# EAGLE library part SIM900 (library FansElectronics-SIM)
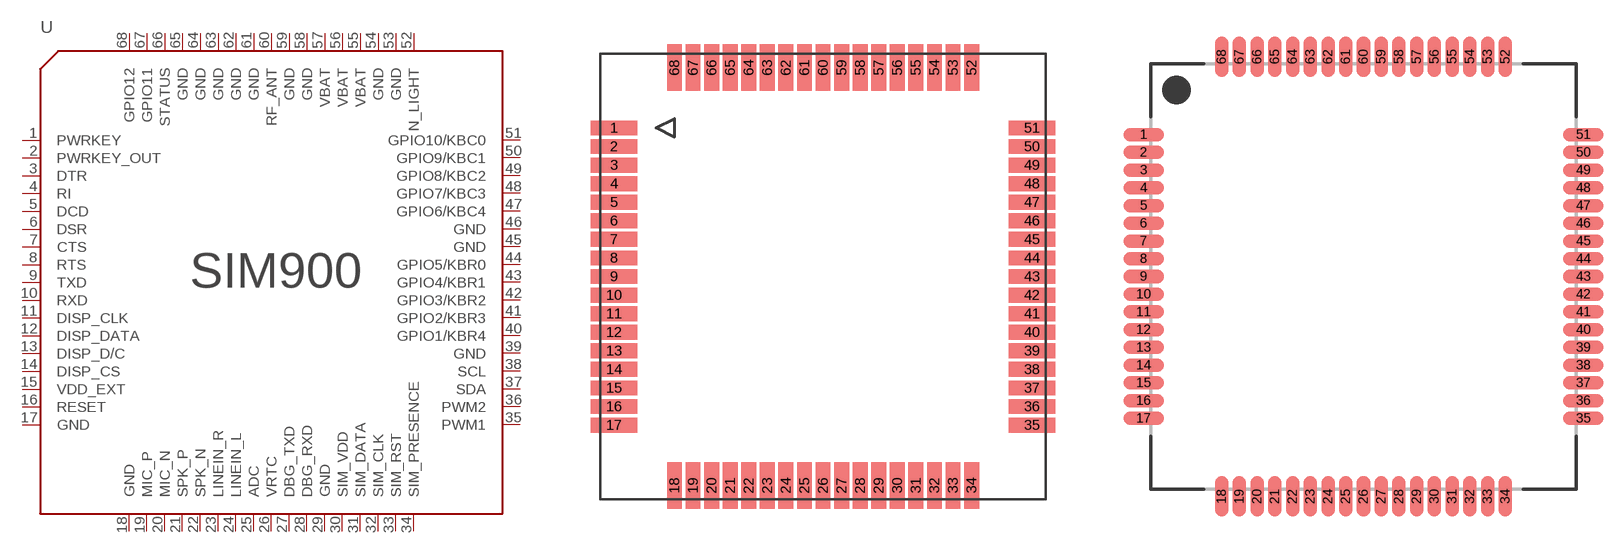
[diagram p1: symbol with the pads of SIM900; footprints SIM900, SIM900-2]

Designator prefix U

## SIM900-1  [SIM900]
1  PWRKEY
2  PWRKEY_OUT
3  DTR
4  RI
5  DCD
6  DSR
7  CTS
8  RTS
9  TXD
10  RXD
11  DISP_CLK
12  DISP_DATA
13  DISP_D/C
14  DISP_CS
15  VDD_EXT  pwr
16  RESET
17  GND  pwr
18  GND  pwr
19  MIC_P  pas
20  MIC_N  pas
21  SPK_P  pas
22  SPK_N  pas
23  LINEIN_R  pas
24  LINEIN_L  pas
25  ADC
26  VRTC
27  DBG_TXD
28  DBG_RXD
29  GND  pwr
30  SIM_VDD
31  SIM_DATA
32  SIM_CLK
33  SIM_RST
34  SIM_PRESENCE
35  PWM1
36  PWM2
37  SDA
38  SCL
39  GND  pwr
40  GPIO1/KBR4
41  GPIO2/KBR3
42  GPIO3/KBR2
43  GPIO4/KBR1
44  GPIO5/KBR0
45  GND  pwr
46  GND  pwr
47  GPIO6/KBC4
48  GPIO7/KBC3
49  GPIO8/KBC2
50  GPIO9/KBC1
51  GPIO10/KBC0
52  N_LIGHT
53  GND  pwr
54  GND  pwr
55  VBAT  pwr
56  VBAT  pwr
57  VBAT  pwr
58  GND  pwr
59  GND  pwr
60  RF_ANT
61  GND  pwr
62  GND  pwr
63  GND  pwr
64  GND  pwr
65  GND  pwr
66  STATUS
67  GPIO11
68  GPIO12

## SIM900  [SIM900-2]
1  PWRKEY
2  PWRKEY_OUT
3  DTR
4  RI
5  DCD
6  DSR
7  CTS
8  RTS
9  TXD
10  RXD
11  DISP_CLK
12  DISP_DATA
13  DISP_D/C
14  DISP_CS
15  VDD_EXT  pwr
16  RESET
17  GND  pwr
18  GND  pwr
19  MIC_P  pas
20  MIC_N  pas
21  SPK_P  pas
22  SPK_N  pas
23  LINEIN_R  pas
24  LINEIN_L  pas
25  ADC
26  VRTC
27  DBG_TXD
28  DBG_RXD
29  GND  pwr
30  SIM_VDD
31  SIM_DATA
32  SIM_CLK
33  SIM_RST
34  SIM_PRESENCE
35  PWM1
36  PWM2
37  SDA
38  SCL
39  GND  pwr
40  GPIO1/KBR4
41  GPIO2/KBR3
42  GPIO3/KBR2
43  GPIO4/KBR1
44  GPIO5/KBR0
45  GND  pwr
46  GND  pwr
47  GPIO6/KBC4
48  GPIO7/KBC3
49  GPIO8/KBC2
50  GPIO9/KBC1
51  GPIO10/KBC0
52  N_LIGHT
53  GND  pwr
54  GND  pwr
55  VBAT  pwr
56  VBAT  pwr
57  VBAT  pwr
58  GND  pwr
59  RF_ANT
60  GND  pwr
61  GND  pwr
62  GND  pwr
63  GND  pwr
64  GND  pwr
65  GND  pwr
66  STATUS
67  GPIO11
68  GPIO12

## Footprint SIM900 (pad centres in mm)
smd 2.5 x 0.8: 1 -11.25,8; 2 -11.25,7; 3 -11.25,6; 4 -11.25,5; 5 -11.25,4; 6 -11.25,3; 7 -11.25,2; 8 -11.25,1; 9 -11.25,0; 10 -11.25,-1; 11 -11.25,-2; 12 -11.25,-3; 13 -11.25,-4; 14 -11.25,-5; 15 -11.25,-6; 16 -11.25,-7; 17 -11.25,-8; 35 11.25,-8; 36 11.25,-7; 37 11.25,-6; 38 11.25,-5; 39 11.25,-4; 40 11.25,-3; 41 11.25,-2; 42 11.25,-1; 43 11.25,0; 44 11.25,1; 45 11.25,2; 46 11.25,3; 47 11.25,4; 48 11.25,5; 49 11.25,6; 50 11.25,7; 51 11.25,8
smd 0.8 x 2.5: 18 -8,-11.25; 19 -7,-11.25; 20 -6,-11.25; 21 -5,-11.25; 22 -4,-11.25; 23 -3,-11.25; 24 -2,-11.25; 25 -1,-11.25; 26 0,-11.25; 27 1,-11.25; 28 2,-11.25; 29 3,-11.25; 30 4,-11.25; 31 5,-11.25; 32 6,-11.25; 33 7,-11.25; 34 8,-11.25; 52 8,11.25; 53 7,11.25; 54 6,11.25; 55 5,11.25; 56 4,11.25; 57 3,11.25; 58 2,11.25; 59 1,11.25; 60 0,11.25; 61 -1,11.25; 62 -2,11.25; 63 -3,11.25; 64 -4,11.25; 65 -5,11.25; 66 -6,11.25; 67 -7,11.25; 68 -8,11.25

## Footprint SIM900-2 (pad centres in mm)
smd 2.286 x 0.762: 1 -12.4,8; 2 -12.4,7; 3 -12.4,6; 4 -12.4,5; 5 -12.4,4; 6 -12.4,3; 7 -12.4,2; 8 -12.4,1; 9 -12.4,0; 10 -12.4,-1; 11 -12.4,-2; 12 -12.4,-3; 13 -12.4,-4; 14 -12.4,-5; 15 -12.4,-6; 16 -12.4,-7; 17 -12.4,-8; 35 12.4,-8; 36 12.4,-7; 37 12.4,-6; 38 12.4,-5; 39 12.4,-4; 40 12.4,-3; 41 12.4,-2; 42 12.4,-1; 43 12.4,0; 44 12.4,1; 45 12.4,2; 46 12.4,3; 47 12.4,4; 48 12.4,5; 49 12.4,6; 50 12.4,7; 51 12.4,8
smd 0.762 x 2.286: 18 -8,-12.4; 19 -7,-12.4; 20 -6,-12.4; 21 -5,-12.4; 22 -4,-12.4; 23 -3,-12.4; 24 -2,-12.4; 25 -1,-12.4; 26 0,-12.4; 27 1,-12.4; 28 2,-12.4; 29 3,-12.4; 30 4,-12.4; 31 5,-12.4; 32 6,-12.4; 33 7,-12.4; 34 8,-12.4; 52 8,12.4; 53 7,12.4; 54 6,12.4; 55 5,12.4; 56 4,12.4; 57 3,12.4; 58 2,12.4; 59 1,12.4; 60 0,12.4; 61 -1,12.4; 62 -2,12.4; 63 -3,12.4; 64 -4,12.4; 65 -5,12.4; 66 -6,12.4; 67 -7,12.4; 68 -8,12.4